# Altium integrated library Homie_IntegratedLibraryV3.IntLib: 31 symbols
Pins are listed as number, name and electrical type; pins without a type are passive.

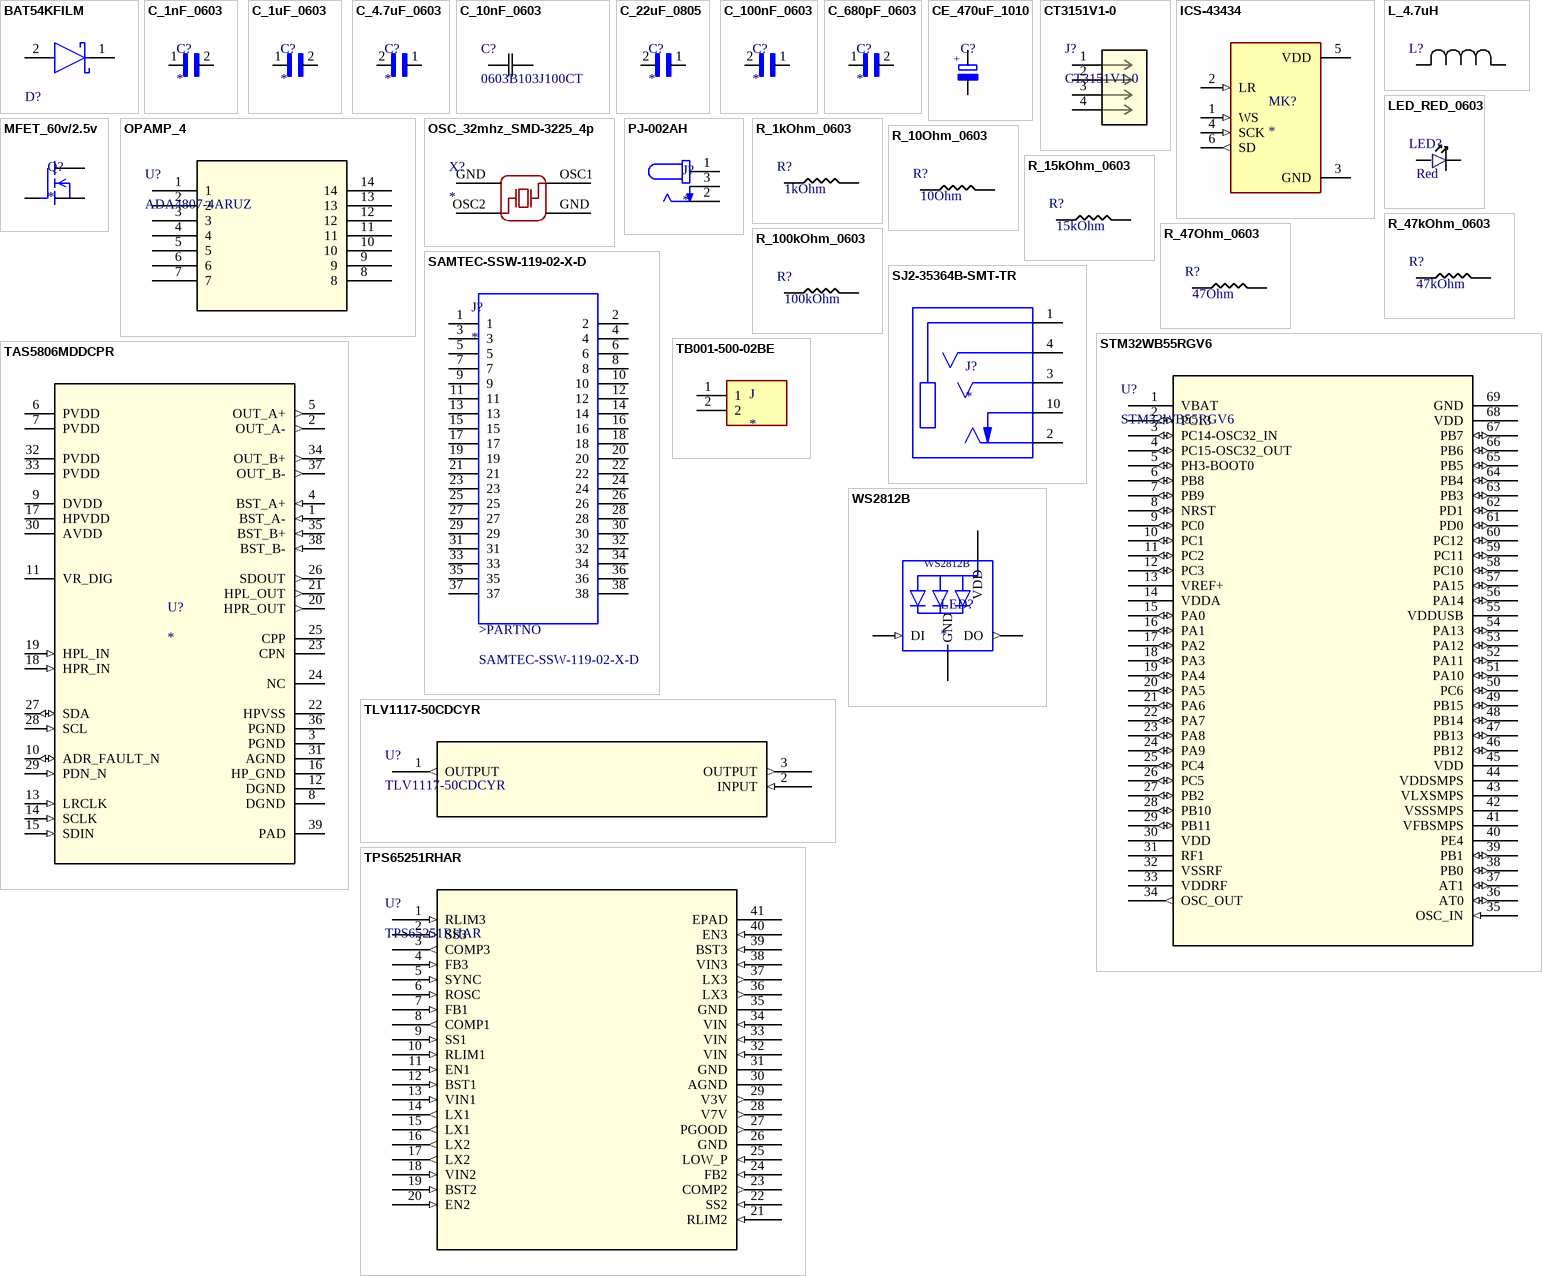
[diagram p0: symbols BAT54KFILM to WS2812B]

## BAT54KFILM
designator D?  (value not drawn)
BAT54 Diode; MFR#: BAT54KFILM; Manufacturer: STMicroelectronics; LCSC#: C283259; Parameter 2: *; Parameter 3: *
footprint STMicroelectronics_SOD-523_MFG
pins: 1 C, 2 A

## C_1nF_0603
designator C?
1000pF ±10% 50V Ceramic Capacitor X7R 0603 (1608 Metric); MP: CL10B102KB8NNNC; MF: Samsung; Price: None; SnapEDA_Link: https://www.snapeda.com/parts/CL10B102KB8NNNC/Samsung/view-part/544114/?ref=snap; Availability: Good; Package: 0603 Samsung; Purchase-URL: https://pricing.snapeda.com/search/part/CL10B102KB8NNNC/?ref=eda; Value: 1000pF; Check_prices: https://www.snapeda.com/parts/CL10B102KB8NNNC/Samsung/view-part/544114/?ref=eda; LCSC#: c1588
footprint CAPC1608X90N
pins: 1, 2

## C_1uF_0603
designator C?
1uF ±10% 50V Ceramic Capacitor X7R 0603 (1608 Metric); MP: CL10A105KB8NNNC; MF: Samsung; Price: None; SnapEDA_Link: https://www.snapeda.com/parts/CL10B102KB8NNNC/Samsung/view-part/544114/?ref=snap; Availability: Good; Package: 0603 Samsung; Value: 1uF; LCSC#: c15849
footprint CAPC1608X90N
pins: 1, 2

## C_4.7uF_0603
designator C?
4.7µF ±10% 16V Ceramic Capacitor X5R 0603 (1608 Metric); MF: Samsung Electro-Mechanics; MP: CL10A475KO8NNNC; Price: None; Availability: Unavailable; Package: 0603 Samsung; SnapEDA_Link: https://www.snapeda.com/parts/CL10A475KO8NNNC/Samsung%20Electro-Mechanics/view-part/3598183/?ref=snap; LCSC#: C19666; Arrow_Electronics-Purchase-URL: https://snapeda.com/shop?store=Arrow+Electronics&id=3598183
footprint CAPC1608X90N
pins: 1, 2

## C_10nF_0603
designator C?, comment 0603B103J100CT
10nf 0603 cap; Vendor: Walsin; Built_By: EMA_UL_Team; SourceLibrary: Walsin_2016-07-18_2; Type: DEV; Manufacturer_Part_Number: 0603B103J100CT; Copyright: Copyright (C) 2018 Accelerated Designs. All rights reserved; RefDes: RefDes; LCSC#: C57112
footprint CAP_0603_S_WAL
pins: 1, 2

## C_22uF_0805
designator C?
22µF 0805 ±20% 25V Ceramic Capacitor X5R 0805 (2012 Metric); MF: Samsung; MP: CL21A226MAQNNNE; SnapEDA_Link: https://www.snapeda.com/parts/CL21A226MAQNNNE/Samsung%20Electro-Mechanics/view-part/620487/?ref=snap; Check_prices: https://www.snapeda.com/parts/CL21A226MAQNNNE/Samsung%20Electro-Mechanics/view-part/620487/?ref=eda; Digi-Key_Part_Number: 1276-2908-1-ND; Value: *; Package: 0805 Samsung; Purchase-URL: https://pricing.snapeda.com/search/part/CL21A226MAQNNNE/?ref=eda; LCSC#: C45783
footprint CAPC2012X140N
pins: 1, 2

## C_100nF_0603
designator C?
0.1µF/100nF  Â±10% 50V Ceramic Capacitor X7R 0603 _1608 Metric_; MP: CC0603KRX7R9BB104; MF: Yageo; Digi-Key_Purchase_URL: https://www.digikey.com/product-detail/en/yageo/CC0603KRX7R9BB104/311-1344-1-ND/2103128?utm_source=snapeda&utm_medium=aggregator&utm_campaign=symbol; Digi-Key_Part_Number: 311-1344-1-ND; Package: 0603 Yageo; LCSC#: C14663; SnapEDA Link: https://www.snapeda.com/parts/CC0603KRX7R9BB104/Yageo/view-part/78680/?ref=snap
footprint CAPC1608X90
pins: 1, 2

## C_680pF_0603
designator C?
680pF ±10% 50V Ceramic Capacitor X7R 0603 (1608 Metric); MP: CL10B684KO8NNNC; MF: Samsung; Price: None; SnapEDA_Link: https://www.snapeda.com/parts/CL10B102KB8NNNC/Samsung/view-part/544114/?ref=snap; Availability: Good; Package: 0603 Samsung; Value: 680pF; LCSC#: C12479
footprint CAPC1608X90N
pins: 1, 2

## CE_470uF_1010
designator C?
Aluminum Electrolytic Capacitors - SMD; MP: VZH471M1ETR-1010; MF: Lelon; Package: None; Availability: Unavailable; Value: *; SnapEDA_Link: https://www.snapeda.com/parts/VZH471M1ETR-1010/Lelon/view-part/2450679/?ref=snap; Price: None; LCSC#: C249933
footprint 140CLH-1010
pins: NEG, POS
text: +

## CT3151V1-0
designator J?
Banana Plug Receptacle; Vendor: CAL TEST Electronics; Built_By: EMA_Kyle; SourceLibrary: CAL_TEST_ELECTRONICS_2020-08-10; Datasheet: http://caltestelectronics.com/images/attachments/P315100rH_drawing.pdf; Manufacturer_Part_Number: CT3151V1-0; Copyright: Copyright (C) 2018 Accelerated Designs. All rights reserved; RefDes: RefDes; Type: DEV
footprint CON4_CT3151V1-0_CTE
pins: 1, 2, 3, 4

## ICS-43434
designator MK?
60Hz ~ 20kHz Digital, IÂ²S Microphone MEMS _Silicon_ 1.65V ~ 3.63V Omnidirectional _-26 Â±1dB @ 94dB SPL_ Solder Pads; MP: ICS-43434; MF: TDK InvenSense; Value: *; Package: TDK InvenSense; Price: None; Availability: Unavailable; SnapEDA_Link: https://www.snapeda.com/parts/ICS-43434/TDK%20InvenSense/view-part/4478548/?ref=snap
footprint MIC_ICS-43434
pins: 1 WS (in), 2 LR (in), 3 GND (power), 4 SCK (in), 5 VDD (power), 6 SD (out)

## L_4.7uH
designator L?, comment SDFL1608Q4R7KTF  (value not drawn)
4.7uH SDFL1608Q4R7KTF; Vendor: Sunlord; Built_By: Jonas Cooper; Manufacturer_Part_Number: SDFL1608Q4R7KTF; LCSC: C1034
footprint L0603
pins: 1, 2

## LED_RED_0603
designator LED?, comment value Red  (hidden comment: KT-0603R)
LIGHT EMITTING DIODES (LED) RED 520~625NM 90~100MCD@20MA TOP VIEW 0603 ROHS; MFR: Hubei KENTO Elec; MFR#: KT-0603R; LCSC#: C2286
footprint LED0603-R-RD
pins: 1, 2

## MFET_60v/2.5v
designator Q?
N-Channel 60V 200mA _Tc_ 350mW _Tc_ Surface Mount SOT-23-3; MP: 2N7002; MF: STMicroelectronics; Price: None; Package: SOT-23-3 Vishay; Value: *; Availability: Unavailable; SnapEDA_Link: https://www.snapeda.com/parts/2N7002/STMicroelectronics/view-part/2885412/?ref=snap; LCSC#: C8545
footprint SOT23
pins: 1 G, 2 S, 3 D

## OPAMP_4
designator U?, comment ADA4807-4ARUZ
Quad OpAmp; Manufacturer_Part_Number: LMV774MT/NOPB; Vendor: Texas Instruments; RefDes: RefDes; Type: DEV; LCSC#: C139366
footprint SOP65P640X120-14N
pins: 1, 2, 3, 4, 5, 6, 7, 8, 9, 10, 11, 12, 13, 14

## OSC_32mhz_SMD-3225_4p
designator X?
SMD CRYSTAL RESONATORS 32MHZ ±10PPM SMD-3225_4P ROHS; MFR: Seiko Epson; MFR#: X1E000021016300; LCSC#: C91742; PKG: SMD-3225_4P; Datasheet: https://datasheet.lcsc.com/szlcsc/Seiko-Epson-X1E0000210163000G_C91742.pdf
footprint OSC-SMD_4P-L3.2-W2.5-BL
pins: GND 3, GND 4, OSC1 1, OSC2 2

## PJ-002AH
designator J?
2.0 x 6.5 mm, 5.0 A, Horizontal, Through Hole, Dc Power Jack Connector; MP: PJ-002AH; MF: CUI Devices; Package: None; Value: *; Digi-Key_Purchase_URL: https://www.digikey.com/product-detail/en/cui-devices/PJ-002AH/CP-002AH-ND/408446?utm_source=snapeda&utm_medium=aggregator&utm_campaign=symbol; Digi-Key_Part_Number: CP-002AH-ND; SnapEDA_Link: https://www.snapeda.com/parts/PJ-002AH/CUI%20Devices/view-part/448876/?ref=snap; CUI_purchase_URL: https://www.cuidevices.com/product/interconnect/connectors/dc-power-connectors/jacks/pj-002ah?utm_source=snapeda.com&utm_medium=referral&utm_campaign=snapedaBOM
footprint CUI_PJ-002AH
pins: 1, 2, 3

## R_1kOhm_0603
designator R?, comment value 1kOhm  (hidden comment: 1 kOhm)
1kOhm +-1%  0603; MFR: Uniroyal; Mfr#: 0603WAF1001T5E; LCSC#: 21190
footprint R0603
pins: 1, 2

## R_10Ohm_0603
designator R?, comment value 10Ohm  (hidden comment: 10 Ohm)
10Ohm +-1%; MFR: Uniroyal; Mfr#: 0603WAF100JT5E; LCSC#: C22859
footprint R0603
pins: 1, 2

## R_15kOhm_0603
designator R?, comment value 15kOhm  (hidden comment: 15 kOhm)
15kOhm +-1%; MFR: Uniroyal; Mfr#: 0603WAF1502T5E; LCSC#: C22809
footprint R0603
pins: 1, 2

## R_47kOhm_0603
designator R?, comment value 47kOhm  (hidden comment: 47 kOhm)
47kOhm +-1%; MFR: Uniroyal; Mfr#: 0603WAF4702T5E; LCSC#: C25819
footprint R0603
pins: 1, 2

## R_47Ohm_0603
designator R?, comment value 47Ohm  (hidden comment: 47 Ohm)
47Ohm +-1%; MFR: Uniroyal; Mfr#: 0603WAF470JT5E; LCSC#: C23182
footprint R0603
pins: 1, 2

## R_100kOhm_0603
designator R?, comment value 100kOhm  (hidden comment: 100 kOhm)
100kOhm +-1%; MFR: Uniroyal; Mfr#: 0603WAF1003T5E; LCSC#: C25803
footprint R0603
pins: 1, 2

## SAMTEC-SSW-119-02-X-D
designator J?
MP: SAMTEC-SSW-119-02-X-D; Package: None; Price: None; Value: *; Availability: Unavailable
footprint SAMTEC-SSW-119-02-X-D
pins: 1, 2, 3, 4, 5, 6, 7, 8, 9, 10, 11, 12, 13, 14, 15, 16, 17, 18, 19, 20, 21, 22, 23, 24, 25, 26, 27, 28, 29, 30, 31, 32, 33, 34, 35, 36, 37, 38
text: >PARTNO

## SJ2-35364B-SMT-TR
designator J?
3.5 mm, Stereo, Right Angle, Surface Mount (SMT), Audio Jack Connector; MP: SJ2-35364B-SMT-TR; MF: {'manufacturer': u'CUI'}; Package: None; Availability: Unavailable; Value: *; Price: None
footprint CUI_SJ2-35364B-SMT-TR
pins: 1, 2, 3, 4, 10

## STM32WB55RGV6
designator U?
STM32 Microcontroller; Vendor: STMicroelectronics; Built_By: EMA_Cory; SourceLibrary: STMicroelectronics_2020-09-16; Datasheet: https://www.st.com/resource/en/datasheet/stm32wb55rg.pdf; Manufacturer_Part_Number: STM32WB55RGV6; Copyright: Copyright (C) 2018 Accelerated Designs. All rights reserved; RefDes: RefDes; Type: DEV
footprint VFQFPN68_8X8_STM
pins: 1 VBAT (power), 2 PC13 (io), 3 PC14-OSC32_IN (io), 4 PC15-OSC32_OUT (io), 5 PH3-BOOT0 (io), 6 PB8 (io), 7 PB9 (io), 8 NRST (io), 9 PC0 (io), 10 PC1 (io), 11 PC2 (io), 12 PC3 (io), 13 VREF+ (power), 14 VDDA (power), 15 PA0 (io), 16 PA1 (io), 17 PA2 (io), 18 PA3 (io), 19 PA4 (io), 20 PA5 (io), 21 PA6 (io), 22 PA7 (io), 23 PA8 (io), 24 PA9 (io), 25 PC4 (io), 26 PC5 (io), 27 PB2 (io), 28 PB10 (io), 29 PB11 (io), 30 VDD (power), 31 RF1, 32 VSSRF, 33 VDDRF (power), 34 OSC_OUT (out), 35 OSC_IN (in), 36 AT0 (io), 37 AT1 (io), 38 PB0 (io), 39 PB1 (io), 40 PE4, 41 VFBSMPS, 42 VSSSMPS, 43 VLXSMPS, 44 VDDSMPS (power), 45 VDD (power), 46 PB12 (io), 47 PB13 (io), 48 PB14 (io), 49 PB15 (io), 50 PC6 (io), 51 PA10 (io), 52 PA11 (io), 53 PA12 (io), 54 PA13 (io), 55 VDDUSB (power), 56 PA14 (io), 57 PA15 (io), 58 PC10 (io), 59 PC11 (io), 60 PC12 (io), 61 PD0 (io), 62 PD1 (io), 63 PB3 (io), 64 PB4 (io), 65 PB5 (io), 66 PB6 (io), 67 PB7 (io), 68 VDD (power), 69 GND

## TAS5806MDDCPR
designator U?
TI Amp/DAC; Manufacturer: Texas Instruments; PartNumber: TAS5806MDDCPR; RefDes: RefDes; Type: DEV; Value: Value; Copyright: Copyright (C) 2018 Accelerated Designs. All rights reserved
footprint DCP0038A_N
pins: 1 BST_A- (in), 2 OUT_A- (out), 3 PGND (power), 4 BST_A+ (in), 5 OUT_A+ (out), 6 PVDD (power), 7 PVDD (power), 8 DGND (power), 9 DVDD (power), 10 ADR_FAULT_N (io), 11 VR_DIG (power), 12 DGND (power), 13 LRCLK (in), 14 SCLK (in), 15 SDIN (in), 16 HP_GND (power), 17 HPVDD (power), 18 HPR_IN (in), 19 HPL_IN (in), 20 HPR_OUT (out), 21 HPL_OUT (out), 22 HPVSS (power), 23 CPN, 24 NC, 25 CPP, 26 SDOUT (out), 27 SDA (io), 28 SCL (in), 29 PDN_N (in), 30 AVDD (power), 31 AGND (power), 32 PVDD (power), 33 PVDD (power), 34 OUT_B+ (out), 35 BST_B+ (in), 36 PGND (power), 37 OUT_B- (out), 38 BST_B- (in), 39 PAD

## TB001-500-02BE
designator J
2~24 Poles, Screw Type, Horizontal, 5.0 Pitch, 22~12 _AWG_, Terminal Block Connector; MP: TB001-500-02BE; MF: CUI Devices; Availability: Unavailable; SnapEDA_Link: https://www.snapeda.com/parts/TB001-500-02BE/CUI%20Devices/view-part/3590292/?ref=snap; CUI_purchase_URL: https://www.cuidevices.com/product/interconnect/connectors/terminal-blocks/tb001-500-series?utm_source=snapeda.com&utm_medium=referral&utm_campaign=snapedaBOM; Package: None; Price: None; Value: *
footprint CUI_TB001-500-02BE
pins: 1, 2

## TLV1117-50CDCYR
designator U?
LDO 5v; Vendor: Texas Instruments; Built_By: EMA_UL_Team; SourceLibrary: TI_2014-06-19; Manufacturer_Part_Number: TLV1117-50CDCYR; Copyright: Copyright (C) 2018 Accelerated Designs. All rights reserved; RefDes: RefDes; Type: DEV
footprint DCY4_TEX
pins: 1 OUTPUT (out), 2 INPUT (in), 3 OUTPUT (out)

## TPS65251RHAR
designator U?
PMU with 3 DC/DC Converters, up to 18Vin; Vendor: Texas Instruments; PACKAGE_DESIGNATOR: RHA; PIN_COUNT: 40; FAMILY_NAME: PMIC SOLUTIONS WITH AND WITHOUT BATTERY CHARGER; INDUSTRY_STD_PKG_TYPE: VQFN; Manufacturer_Part_Number: TPS65251RHAR; GENERIC_PART_NUMBER: TPS65251; Datasheet_URL: http://www.ti.com/lit/gpn/TPS65251; Manufacturer: Texas Instruments; Copyright: Copyright (C) 2018 Accelerated Designs. All rights reserved; RefDes: RefDes; Type: DEV
footprint RHA40_2P62X3P52
pins: 1 RLIM3 (in), 2 SS3 (in), 3 COMP3 (out), 4 FB3 (in), 5 SYNC (in), 6 ROSC (in), 7 FB1 (in), 8 COMP1 (out), 9 SS1 (in), 10 RLIM1 (in), 11 EN1 (in), 12 BST1 (in), 13 VIN1 (in), 14 LX1 (out), 15 LX1 (out), 16 LX2 (out), 17 LX2 (out), 18 VIN2 (in), 19 BST2 (in), 20 EN2 (in), 21 RLIM2 (in), 22 SS2 (in), 23 COMP2 (out), 24 FB2 (in), 25 LOW_P (in), 26 GND (power), 27 PGOOD (out), 28 V7V (out), 29 V3V (out), 30 AGND (power), 31 GND (power), 32 VIN (in), 33 VIN (in), 34 VIN (in), 35 GND (power), 36 LX3 (out), 37 LX3 (out), 38 VIN3 (in), 39 BST3 (in), 40 EN3 (in), 41 EPAD

## WS2812B
designator LED?
Raspberry Pi HAT _40 pin_ Wheeled Robotics Kit; MP: WS2812B; MF: SparkFun Electronics; Availability: Unavailable; SnapEDA_Link: https://www.snapeda.com/parts/WS2812B/Worldsemi/view-part/1038297/?ref=snap; Price: None; Value: *; Package: None
footprint WS2812B
pins: 1-VDD VDD (power), 2-DOUT DO (out), 3-GND GND (power), 4-DIN DI (in)